# Altium schematic symbol library LED-ARGB-1010_3GND.SchLib: 1 symbol
Pins are listed as number, name and electrical type; pins without a type are passive.

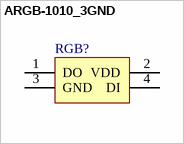
[diagram p0: symbol ARGB-1010_3GND]

## ARGB-1010_3GND
designator RGB?
pins: 1 DO, 2 VDD, 3 GND, 4 DI